# Altium footprint library SOT23-5.PcbLib: 1 footprints
Each footprint in its own frame and in the unit in brackets; x right, y up, seen from the top. Pads: shape width x height; smd on the part's side, far side on the other; paste and mask are expansions set on the pad; w line width, h text height; cw(c..) or ccw(c..) is an arc to the next point about the centre after c.
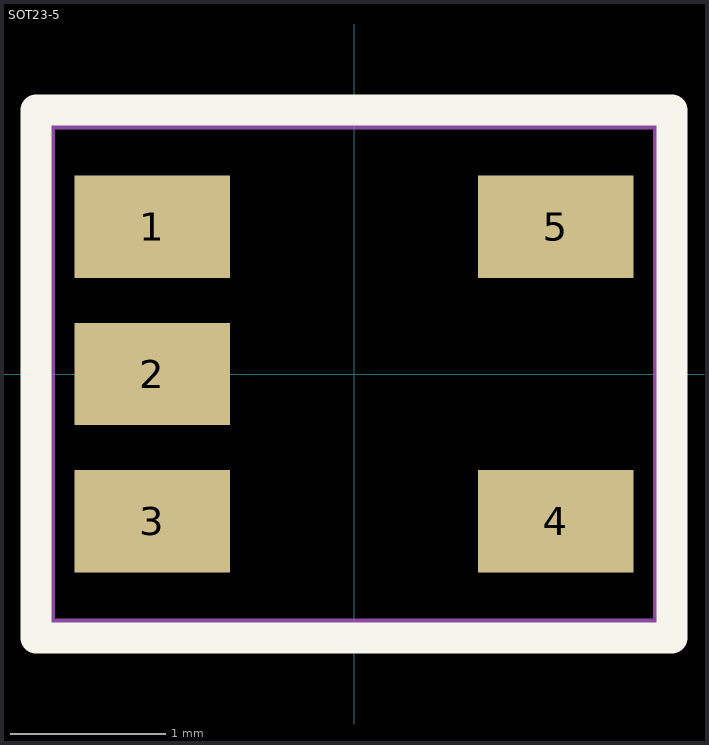
[diagram p0: the footprint, top view; thin cyan lines are the x and y axes]

## SOT23-5 [mm]
pads (5):
  rect 1x0.66 smd: 1(-1.3,0.95) 2(-1.3,0) 3(-1.3,-0.95) 4(1.3,-0.95) 5(1.3,0.95)
Top Overlay:
  lines w0.2: -2.05,-1.7 2.05,-1.7 2.05,1.7 -2.05,1.7 -2.05,-1.7
Top Assembly:
  lines w0.1: -1.975,-1.625 1.975,-1.625 1.975,1.625 -1.975,1.625 -1.975,-1.625
  text "'.Designator'" at -0.925,-0.35 h0.7
3D body "SOT-23-5-DEFAULT.STEP": height 1.08, standoff -0.02, extent -1.25,-1.5 1.25,1.5